# EAGLE library part TBA641 (library Audio-Power-amlifier V.2.0)
http://www.datasheetcatalog.com/datasheets_pdf/T/B/A/6/TBA641.shtml
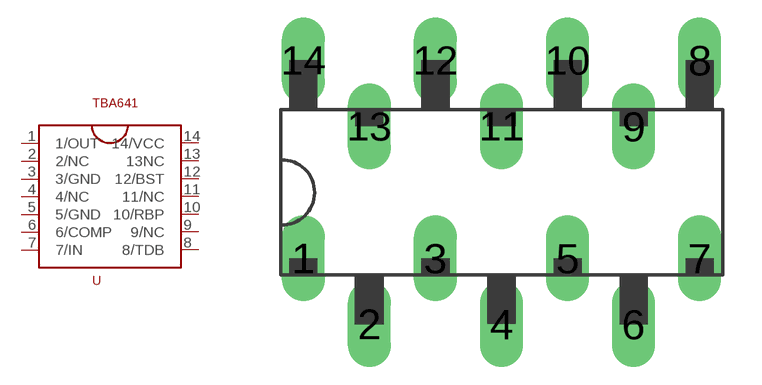
[diagram p67: symbol with the pads of SOT57; footprint SOT57]

Designator prefix -

## TBA641  [SOT57]
1  1/OUT  out
2  2/NC  nc
3  3/GND  pwr
4  4/NC  nc
5  5/GND  pwr
6  6/COMP
7  7/IN  in
8  8/TDB
9  9/NC  nc
10  10/RBP
11  11/NC  nc
12  12/BST
13  13NC  nc
14  14/VCC  pwr

## Footprint SOT57 (pad centres in mm)
drill 1.1 long: 1 -7.62,-2.54; 2 -5.08,-5.08; 3 -2.54,-2.54; 4 0,-5.08; 5 2.54,-2.54; 6 5.08,-5.08; 7 7.62,-2.54; 8 7.62,5.08; 9 5.08,2.54; 10 2.54,5.08; 11 0,2.54; 12 -2.54,5.08; 13 -5.08,2.54; 14 -7.62,5.08